# Altium footprint library jointbar.PCBLIB: 193 footprints (part 11 of 13)
Each footprint in its own frame and in the unit in brackets; x right, y up, seen from the top. Pads: shape width x height; smd on the part's side, far side on the other; paste and mask are expansions set on the pad; w line width, h text height; cw(c..) or ccw(c..) is an arc to the next point about the centre after c.
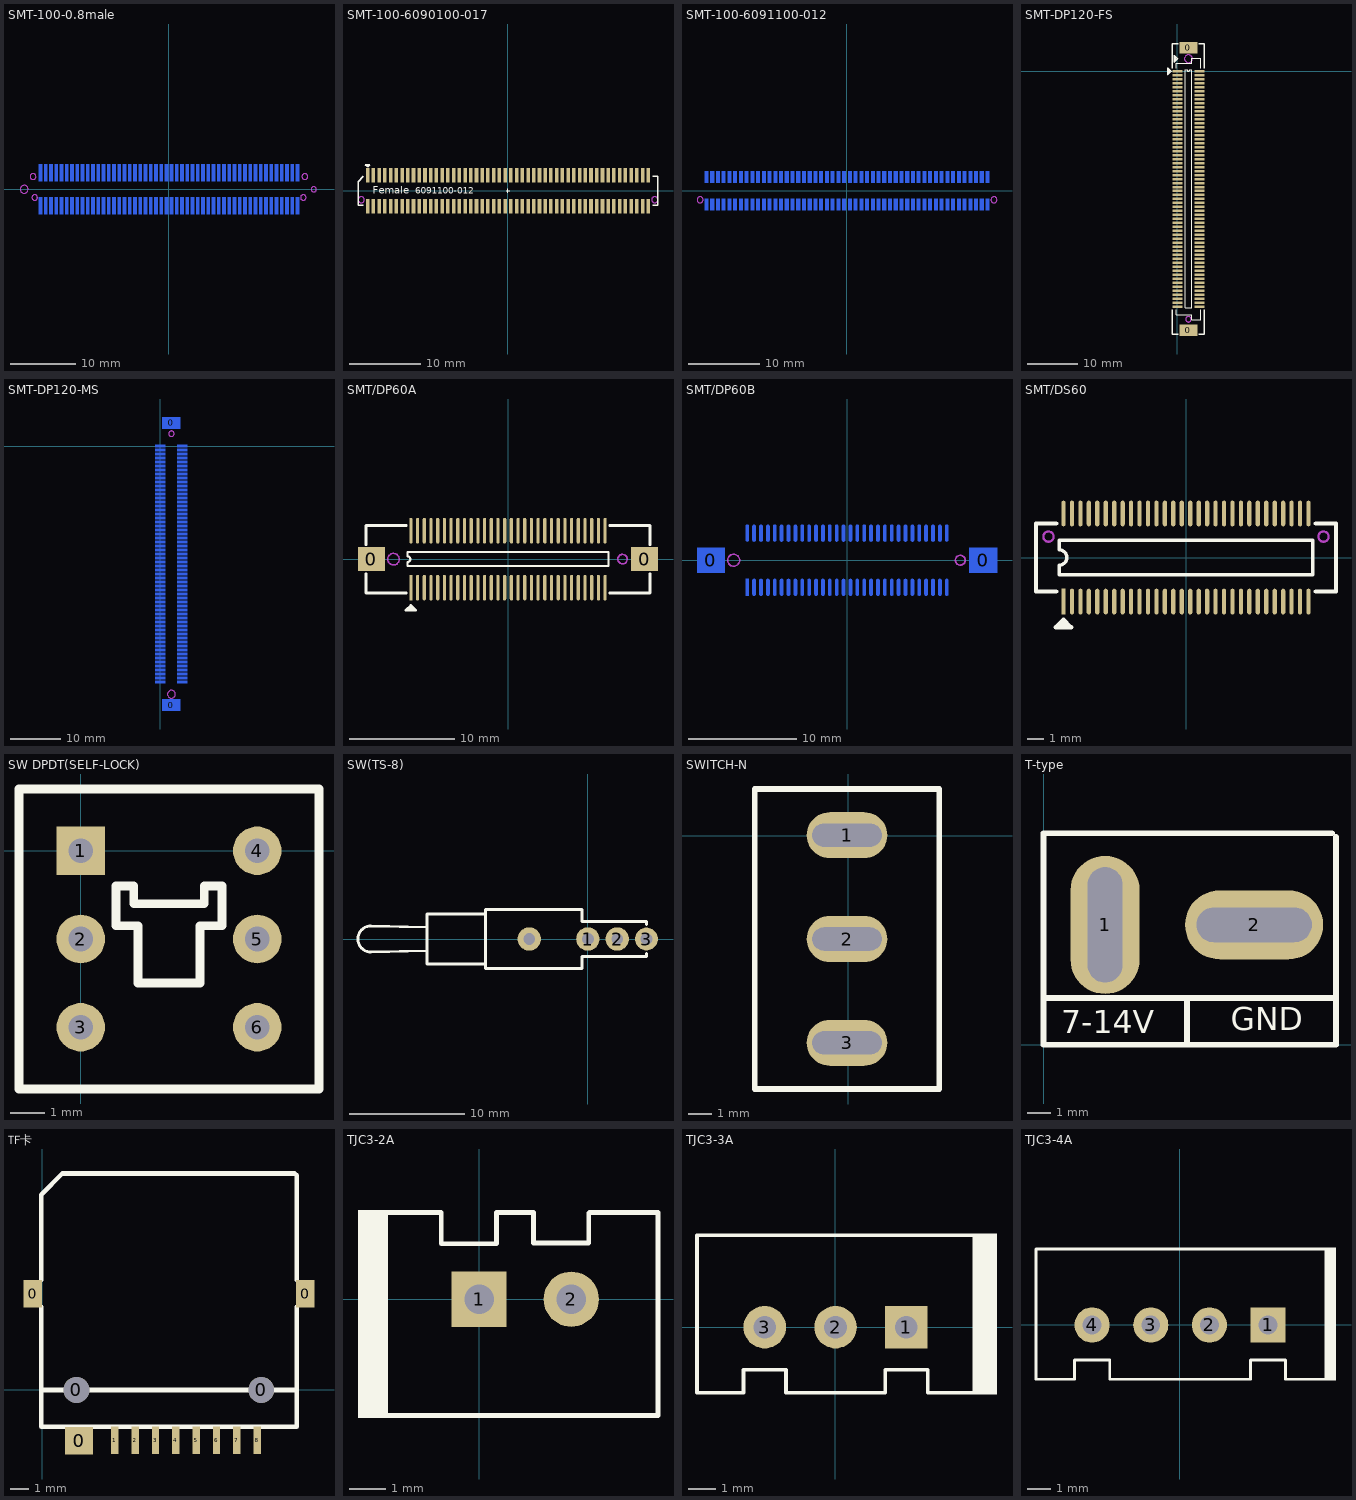
[diagram p10: the footprints below, top view; thin cyan lines are the x and y axes]

## SMT-100-0.8male [mm] "Male"
height 3.607
pads (100):
  rect 0.5x2.6 smd far side: 1(-19.6,2.505) 2(-19.6,-2.505) 3(-18.8,2.505) 4(-18.8,-2.505) 5(-18,2.505) 6(-18,-2.505) 7(-17.2,2.505) 8(-17.2,-2.505) 9(-16.4,2.505) 10(-16.4,-2.505) 11(-15.6,2.505) 12(-15.6,-2.505) 13(-14.8,2.505) 14(-14.8,-2.505) 15(-14,2.505) 16(-14,-2.505) 17(-13.2,2.505) 18(-13.2,-2.505) 19(-12.4,2.505) 20(-12.4,-2.505) 21(-11.6,2.505) 22(-11.6,-2.505) 23(-10.8,2.505) 24(-10.8,-2.505) 25(-10,2.505) 26(-10,-2.505) 27(-9.2,2.505) 28(-9.2,-2.505) 29(-8.4,2.505) 30(-8.4,-2.505) 31(-7.6,2.505) 32(-7.6,-2.505) 33(-6.8,2.505) 34(-6.8,-2.505) 35(-6,2.505) 36(-6,-2.505) 37(-5.2,2.505) 38(-5.2,-2.505) 39(-4.4,2.505) 40(-4.4,-2.505) 41(-3.6,2.505) 42(-3.6,-2.505) 43(-2.8,2.505) 44(-2.8,-2.505) 45(-2,2.505) 46(-2,-2.505) 47(-1.2,2.505) 48(-1.2,-2.505) 49(-0.4,2.505) 50(-0.4,-2.505) 51(0.4,2.505) 52(0.4,-2.505) 53(1.2,2.505) 54(1.2,-2.505) 55(2,2.505) 56(2,-2.505) 57(2.8,2.505) 58(2.8,-2.505) 59(3.6,2.505) 60(3.6,-2.505) 61(4.4,2.505) 62(4.4,-2.505) 63(5.2,2.505) 64(5.2,-2.505) 65(6,2.505) 66(6,-2.505) 67(6.8,2.505) 68(6.8,-2.505) 69(7.6,2.505) 70(7.6,-2.505) 71(8.4,2.505) 72(8.4,-2.505) 73(9.2,2.505) 74(9.2,-2.505) 75(10,2.505) 76(10,-2.505) 77(10.8,2.505) 78(10.8,-2.505) 79(11.6,2.505) 80(11.6,-2.505) 81(12.4,2.505) 82(12.4,-2.505) 83(13.2,2.505) 84(13.2,-2.505) 85(14,2.505) 86(14,-2.505) 87(14.8,2.505) 88(14.8,-2.505) 89(15.6,2.505) 90(15.6,-2.505) 91(16.4,2.505) 92(16.4,-2.505) 93(17.2,2.505) 94(17.2,-2.505) 95(18,2.505) 96(18,-2.505) 97(18.8,2.505) 98(18.8,-2.505) 99(19.6,2.505) 100(19.6,-2.505)
BottomOverlay:
  lines w0.127: -0.254,0 0.254,0 ; 0,-0.254 0,0.254
  lines w0.203: -20.066,-1.626 -20.828,-1.626 -20.828,0.864 -20.066,1.626 ; -20,-3 -22.9,-3 -22.9,3 -20,3 ; 20,-3 22.9,-3 22.9,3 20,3 ; 20.066,-1.626 20.828,-1.626 20.828,1.626 20.066,1.626 ; -20.402,3.298 -20.1,3.6 -20.402,3.902 -20.402,3.298
  text "Male" at -18.771,0.483 h1.02
KeepOutLayer:
  circle w0.1: c-20.5,-1.25 r0.425
  circle w0.1: c20.5,-1.25 r0.425
  circle w0.1: c-20.75,1.95 r0.45
  circle w0.1: c20.75,1.95 r0.45
  circle w0.1: c-22.1,0 r0.6
  circle w0.1: c22.1,0 r0.4
Mechanical1:
  circle w0.1: c-20.5,-1.25 r0.425
  circle w0.1: c20.5,-1.25 r0.425
  circle w0.1: c-20.75,1.95 r0.45
  circle w0.1: c20.75,1.95 r0.45
  circle w0.1: c-22.1,0 r0.6
  circle w0.1: c22.1,0 r0.4

## SMT-100-6090100-017 [mm] "Female"
height 5.182
pads (100):
  rect 0.5x2 smd: 1(-19.6,2.159) 2(-19.6,-2.159) 3(-18.8,2.159) 4(-18.8,-2.159) 5(-18,2.159) 6(-18,-2.159) 7(-17.2,2.159) 8(-17.2,-2.159) 9(-16.4,2.159) 10(-16.4,-2.159) 11(-15.6,2.159) 12(-15.6,-2.159) 13(-14.8,2.159) 14(-14.8,-2.159) 15(-14,2.159) 16(-14,-2.159) 17(-13.2,2.159) 18(-13.2,-2.159) 19(-12.4,2.159) 20(-12.4,-2.159) 21(-11.6,2.159) 22(-11.6,-2.159) 23(-10.8,2.159) 24(-10.8,-2.159) 25(-10,2.159) 26(-10,-2.159) 27(-9.2,2.159) 28(-9.2,-2.159) 29(-8.4,2.159) 30(-8.4,-2.159) 31(-7.6,2.159) 32(-7.6,-2.159) 33(-6.8,2.159) 34(-6.8,-2.159) 35(-6,2.159) 36(-6,-2.159) 37(-5.2,2.159) 38(-5.2,-2.159) 39(-4.4,2.159) 40(-4.4,-2.159) 41(-3.6,2.159) 42(-3.6,-2.159) 43(-2.8,2.159) 44(-2.8,-2.159) 45(-2,2.159) 46(-2,-2.159) 47(-1.2,2.159) 48(-1.2,-2.159) 49(-0.4,2.159) 50(-0.4,-2.159) 51(0.4,2.159) 52(0.4,-2.159) 53(1.2,2.159) 54(1.2,-2.159) 55(2,2.159) 56(2,-2.159) 57(2.8,2.159) 58(2.8,-2.159) 59(3.6,2.159) 60(3.6,-2.159) 61(4.4,2.159) 62(4.4,-2.159) 63(5.2,2.159) 64(5.2,-2.159) 65(6,2.159) 66(6,-2.159) 67(6.8,2.159) 68(6.8,-2.159) 69(7.6,2.159) 70(7.6,-2.159) 71(8.4,2.159) 72(8.4,-2.159) 73(9.2,2.159) 74(9.2,-2.159) 75(10,2.159) 76(10,-2.159) 77(10.8,2.159) 78(10.8,-2.159) 79(11.6,2.159) 80(11.6,-2.159) 81(12.4,2.159) 82(12.4,-2.159) 83(13.2,2.159) 84(13.2,-2.159) 85(14,2.159) 86(14,-2.159) 87(14.8,2.159) 88(14.8,-2.159) 89(15.6,2.159) 90(15.6,-2.159) 91(16.4,2.159) 92(16.4,-2.159) 93(17.2,2.159) 94(17.2,-2.159) 95(18,2.159) 96(18,-2.159) 97(18.8,2.159) 98(18.8,-2.159) 99(19.6,2.159) 100(19.6,-2.159)
TopOverlay:
  lines w0.127: -0.254,0 0.254,0 ; 0,-0.254 0,0.254
  lines w0.203: -20.193,-2.032 -20.955,-2.032 -20.955,1.27 -20.193,2.032 ; 20.193,-2.032 20.955,-2.032 20.955,2.032 20.193,2.032 ; -19.911,3.655 -19.609,3.353 -19.307,3.655 -19.911,3.655
  text "Female" at -18.923,-0.432 h1.02
  text "6091100-012" at -12.979,-0.432 h0.91
KeepOutLayer:
  circle w0.1: c-20.5,-1.25 r0.425
  circle w0.1: c20.5,-1.25 r0.425
Mechanical1:
  circle w0.1: c-20.5,-1.25 r0.425
  circle w0.1: c20.5,-1.25 r0.425

## SMT-100-6091100-012 [mm] "Male"
height 3.607
pads (100):
  rect 0.5x1.6 smd far side: 1(-19.6,1.905) 2(-19.6,-1.905) 3(-18.8,1.905) 4(-18.8,-1.905) 5(-18,1.905) 6(-18,-1.905) 7(-17.2,1.905) 8(-17.2,-1.905) 9(-16.4,1.905) 10(-16.4,-1.905) 11(-15.6,1.905) 12(-15.6,-1.905) 13(-14.8,1.905) 14(-14.8,-1.905) 15(-14,1.905) 16(-14,-1.905) 17(-13.2,1.905) 18(-13.2,-1.905) 19(-12.4,1.905) 20(-12.4,-1.905) 21(-11.6,1.905) 22(-11.6,-1.905) 23(-10.8,1.905) 24(-10.8,-1.905) 25(-10,1.905) 26(-10,-1.905) 27(-9.2,1.905) 28(-9.2,-1.905) 29(-8.4,1.905) 30(-8.4,-1.905) 31(-7.6,1.905) 32(-7.6,-1.905) 33(-6.8,1.905) 34(-6.8,-1.905) 35(-6,1.905) 36(-6,-1.905) 37(-5.2,1.905) 38(-5.2,-1.905) 39(-4.4,1.905) 40(-4.4,-1.905) 41(-3.6,1.905) 42(-3.6,-1.905) 43(-2.8,1.905) 44(-2.8,-1.905) 45(-2,1.905) 46(-2,-1.905) 47(-1.2,1.905) 48(-1.2,-1.905) 49(-0.4,1.905) 50(-0.4,-1.905) 51(0.4,1.905) 52(0.4,-1.905) 53(1.2,1.905) 54(1.2,-1.905) 55(2,1.905) 56(2,-1.905) 57(2.8,1.905) 58(2.8,-1.905) 59(3.6,1.905) 60(3.6,-1.905) 61(4.4,1.905) 62(4.4,-1.905) 63(5.2,1.905) 64(5.2,-1.905) 65(6,1.905) 66(6,-1.905) 67(6.8,1.905) 68(6.8,-1.905) 69(7.6,1.905) 70(7.6,-1.905) 71(8.4,1.905) 72(8.4,-1.905) 73(9.2,1.905) 74(9.2,-1.905) 75(10,1.905) 76(10,-1.905) 77(10.8,1.905) 78(10.8,-1.905) 79(11.6,1.905) 80(11.6,-1.905) 81(12.4,1.905) 82(12.4,-1.905) 83(13.2,1.905) 84(13.2,-1.905) 85(14,1.905) 86(14,-1.905) 87(14.8,1.905) 88(14.8,-1.905) 89(15.6,1.905) 90(15.6,-1.905) 91(16.4,1.905) 92(16.4,-1.905) 93(17.2,1.905) 94(17.2,-1.905) 95(18,1.905) 96(18,-1.905) 97(18.8,1.905) 98(18.8,-1.905) 99(19.6,1.905) 100(19.6,-1.905)
BottomOverlay:
  lines w0.127: -0.254,0 0.254,0 ; 0,-0.254 0,0.254
  lines w0.203: -20.066,-1.626 -20.828,-1.626 -20.828,0.864 -20.066,1.626 ; 20.066,-1.626 20.828,-1.626 20.828,1.626 20.066,1.626 ; -19.911,3.223 -19.307,3.223 -19.609,2.921 -19.911,3.223
  text "6091100-012" at -14.783,0.483 h0.91
  text "Male" at -18.771,0.483 h1.02
KeepOutLayer:
  circle w0.1: c20.5,-1.25 r0.425
  circle w0.1: c-20.5,-1.25 r0.425
Mechanical1:
  circle w0.1: c20.5,-1.25 r0.425
  circle w0.1: c-20.5,-1.25 r0.425

## SMT-DP120-FS [mm]
height 3.81
pads (122):
  rect 3.6x2.3 smd: 0(2.2,-51.85) 0(2.2,4.65)
  rect 2x0.5 smd: 1(0,0) 2(4.4,0) 3(0,-0.8) 4(4.4,-0.8) 5(0,-1.6) 6(4.4,-1.6) 7(0,-2.4) 8(4.4,-2.4) 9(0,-3.2) 10(4.4,-3.2) 11(0,-4) 12(4.4,-4) 13(0,-4.8) 14(4.4,-4.8) 15(0,-5.6) 16(4.4,-5.6) 17(0,-6.4) 18(4.4,-6.4) 19(0,-7.2) 20(4.4,-7.2) 21(0,-8) 22(4.4,-8) 23(0,-8.8) 24(4.4,-8.8) 25(0,-9.6) 26(4.4,-9.6) 27(0,-10.4) 28(4.4,-10.4) 29(0,-11.2) 30(4.4,-11.2) 31(0,-12) 32(4.4,-12) 33(0,-12.8) 34(4.4,-12.8) 35(0,-13.6) 36(4.4,-13.6) 37(0,-14.4) 38(4.4,-14.4) 39(0,-15.2) 40(4.4,-15.2) 41(0,-16) 42(4.4,-16) 43(0,-16.8) 44(4.4,-16.8) 45(0,-17.6) 46(4.4,-17.6) 47(0,-18.4) 48(4.4,-18.4) 49(0,-19.2) 50(4.4,-19.2) 51(0,-20) 52(4.4,-20) 53(0,-20.8) 54(4.4,-20.8) 55(0,-21.6) 56(4.4,-21.6) 57(0,-22.4) 58(4.4,-22.4) 59(0,-23.2) 60(4.4,-23.2) 61(0,-24) 62(4.4,-24) 63(0,-24.8) 64(4.4,-24.8) 65(0,-25.6) 66(4.4,-25.6) 67(0,-26.4) 68(4.4,-26.4) 69(0,-27.2) 70(4.4,-27.2) 71(0,-28) 72(4.4,-28) 73(0,-28.8) 74(4.4,-28.8) 75(0,-29.6) 76(4.4,-29.6) 77(0,-30.4) 78(4.4,-30.4) 79(0,-31.2) 80(4.4,-31.2) 81(0,-32) 82(4.4,-32) 83(0,-32.8) 84(4.4,-32.8) 85(0,-33.6) 86(4.4,-33.6) 87(0,-34.4) 88(4.4,-34.4) 89(0,-35.2) 90(4.4,-35.2) 91(0,-36) 92(4.4,-36) 93(0,-36.8) 94(4.4,-36.8) 95(0,-37.6) 96(4.4,-37.6) 97(0,-38.4) 98(4.4,-38.4) 99(0,-39.2) 100(4.4,-39.2) 101(0,-40) 102(4.4,-40) 103(0,-40.8) 104(4.4,-40.8) 105(0,-41.6) 106(4.4,-41.6) 107(0,-42.4) 108(4.4,-42.4) 109(0,-43.2) 110(4.4,-43.2) 111(0,-44) 112(4.4,-44) 113(0,-44.8) 114(4.4,-44.8) 115(0,-45.6) 116(4.4,-45.6) 117(0,-46.4) 118(4.4,-46.4) 119(0,-47.2) 120(4.4,-47.2)
TopOverlay:
  lines w0.2: 1.535,-47.411 2.865,-47.411 2.865,0.265 2.469,0.265 cw(c2.2,0.265) 1.931,0.265 1.535,0.265 1.535,-47.411
  lines w0.229: -1.739,-0.469 -1.739,0.469 ; -1.525,-0.255 -1.525,0.255 ; -0.417,2.021 -0.417,2.958 ; -0.203,-47.81 -0.203,-48.826 2.845,-48.826 2.845,-49.842 4.648,-49.842 4.648,-47.759 ; -0.203,0.61 -0.203,1.626 2.845,1.626 2.845,2.642 4.648,2.642 4.648,0.559 ; -0.203,2.235 -0.203,2.744 ; -1.956,-0.686 -1.27,0 -1.956,0.686 -1.956,-0.686 ; -0.634,1.803 -0.634,3.175 0.051,2.489 -0.634,1.803
  lines w0.254: -1,-47.77 -1,-52.681 0.121,-52.681 ; -1,0.57 -1,5.481 0.121,5.481 ; 4.279,-52.7 5.4,-52.7 5.4,-47.795 ; 4.279,5.5 5.4,5.5 5.4,0.595
KeepOutLayer:
  circle w0.152: c2.2,2.5 r0.8
  circle w0.152: c2.2,-49.7 r0.55
Mechanical1:
  circle w0.152: c2.2,2.5 r0.8
  circle w0.152: c2.2,-49.7 r0.55

## SMT-DP120-MS [mm]
height 7.62
pads (122):
  rect 3.6x2.3 smd far side: 0(2.2,-51.85) 0(2.2,4.65)
  rect 2x0.5 smd far side: 1(0,0) 2(4.4,0) 3(0,-0.8) 4(4.4,-0.8) 5(0,-1.6) 6(4.4,-1.6) 7(0,-2.4) 8(4.4,-2.4) 9(0,-3.2) 10(4.4,-3.2) 11(0,-4) 12(4.4,-4) 13(0,-4.8) 14(4.4,-4.8) 15(0,-5.6) 16(4.4,-5.6) 17(0,-6.4) 18(4.4,-6.4) 19(0,-7.2) 20(4.4,-7.2) 21(0,-8) 22(4.4,-8) 23(0,-8.8) 24(4.4,-8.8) 25(0,-9.6) 26(4.4,-9.6) 27(0,-10.4) 28(4.4,-10.4) 29(0,-11.2) 30(4.4,-11.2) 31(0,-12) 32(4.4,-12) 33(0,-12.8) 34(4.4,-12.8) 35(0,-13.6) 36(4.4,-13.6) 37(0,-14.4) 38(4.4,-14.4) 39(0,-15.2) 40(4.4,-15.2) 41(0,-16) 42(4.4,-16) 43(0,-16.8) 44(4.4,-16.8) 45(0,-17.6) 46(4.4,-17.6) 47(0,-18.4) 48(4.4,-18.4) 49(0,-19.2) 50(4.4,-19.2) 51(0,-20) 52(4.4,-20) 53(0,-20.8) 54(4.4,-20.8) 55(0,-21.6) 56(4.4,-21.6) 57(0,-22.4) 58(4.4,-22.4) 59(0,-23.2) 60(4.4,-23.2) 61(0,-24) 62(4.4,-24) 63(0,-24.8) 64(4.4,-24.8) 65(0,-25.6) 66(4.4,-25.6) 67(0,-26.4) 68(4.4,-26.4) 69(0,-27.2) 70(4.4,-27.2) 71(0,-28) 72(4.4,-28) 73(0,-28.8) 74(4.4,-28.8) 75(0,-29.6) 76(4.4,-29.6) 77(0,-30.4) 78(4.4,-30.4) 79(0,-31.2) 80(4.4,-31.2) 81(0,-32) 82(4.4,-32) 83(0,-32.8) 84(4.4,-32.8) 85(0,-33.6) 86(4.4,-33.6) 87(0,-34.4) 88(4.4,-34.4) 89(0,-35.2) 90(4.4,-35.2) 91(0,-36) 92(4.4,-36) 93(0,-36.8) 94(4.4,-36.8) 95(0,-37.6) 96(4.4,-37.6) 97(0,-38.4) 98(4.4,-38.4) 99(0,-39.2) 100(4.4,-39.2) 101(0,-40) 102(4.4,-40) 103(0,-40.8) 104(4.4,-40.8) 105(0,-41.6) 106(4.4,-41.6) 107(0,-42.4) 108(4.4,-42.4) 109(0,-43.2) 110(4.4,-43.2) 111(0,-44) 112(4.4,-44) 113(0,-44.8) 114(4.4,-44.8) 115(0,-45.6) 116(4.4,-45.6) 117(0,-46.4) 118(4.4,-46.4) 119(0,-47.2) 120(4.4,-47.2)
BottomOverlay:
  lines w0.2: 1.535,-47.411 2.865,-47.411 2.865,0.265 2.469,0.265 cw(c2.2,0.265) 1.931,0.265 1.535,0.265 1.535,-47.411
  lines w0.229: -1.739,-0.469 -1.739,0.469 ; -1.525,-0.255 -1.525,0.255 ; -0.203,-47.81 -0.203,-48.826 2.845,-48.826 2.845,-49.842 4.648,-49.842 4.648,-47.759 ; -0.203,0.61 -0.203,1.626 2.845,1.626 2.845,2.642 4.648,2.642 4.648,0.559 ; 0.302,0.759 0.302,1.12 ; -1.956,-0.686 -1.27,0 -1.956,0.686 -1.956,-0.686 ; 0.127,0.584 0.483,0.94 0.127,1.295 0.127,0.584
  lines w0.254: -1,-47.77 -1,-52.681 0.121,-52.681 ; -1,0.57 -1,5.481 0.121,5.481 ; 4.279,-52.7 5.4,-52.7 5.4,-47.795 ; 4.279,5.5 5.4,5.5 5.4,0.595
KeepOutLayer:
  circle w0.152: c2.2,2.5 r0.55
  circle w0.152: c2.2,-49.7 r0.8
Mechanical1:
  circle w0.152: c2.2,2.5 r0.55
  circle w0.152: c2.2,-49.7 r0.8

## SMT/DP60A [mil]
pads (62):
  rect 100x90 smd: 0(-510,0) 0(510,0)
  rect 12x96 smd: 1(-362.5,-106.3)
  oval 12x96 smd: 2(-362.5,106.3) 3(-337.5,-106.3) 4(-337.5,106.3) 5(-312.5,-106.3) 6(-312.5,106.3) 7(-287.5,-106.3) 8(-287.5,106.3) 9(-262.5,-106.3) 10(-262.5,106.3) 11(-237.5,-106.3) 12(-237.5,106.3) 13(-212.5,-106.3) 14(-212.5,106.3) 15(-187.5,-106.3) 16(-187.5,106.3) 17(-162.5,-106.3) 18(-162.5,106.3) 19(-137.5,-106.3) 20(-137.5,106.3) 21(-112.5,-106.3) 22(-112.5,106.3) 23(-87.5,-106.3) 24(-87.5,106.3) 25(-62.5,-106.3) 26(-62.5,106.3) 27(-37.5,-106.3) 28(-37.5,106.3) 29(-12.5,-106.3) 30(-12.5,106.3) 31(12.5,-106.3) 32(12.5,106.3) 33(37.5,-106.3) 34(37.5,106.3) 35(62.5,-106.3) 36(62.5,106.3) 37(87.5,-106.3) 38(87.5,106.3) 39(112.5,-106.3) 40(112.5,106.3) 41(137.5,-106.3) 42(137.5,106.3) 43(162.5,-106.3) 44(162.5,106.3) 45(187.5,-106.3) 46(187.5,106.3) 47(212.5,-106.3) 48(212.5,106.3) 49(237.5,-106.3) 50(237.5,106.3) 51(262.5,-106.3) 52(262.5,106.3) 53(287.5,-106.3) 54(287.5,106.3) 55(312.5,-106.3) 56(312.5,106.3) 57(337.5,-106.3) 58(337.5,106.3) 59(362.5,-106.3) 60(362.5,106.3)
TopOverlay:
  rectangle: -370.5,-190.3 -354.5,-178.3
  lines w7.87: -375,-26.18 -375,-10.58 ccw(c-375,0) -375,10.58 -375,26.18 375,26.18 375,-26.18 -375,-26.18
  lines w10: -529.92,-54.08 -529.92,-125.98 -380.02,-125.98 ; -529.92,54.08 -529.92,125.98 -380.02,125.98 ; 380.02,-125.98 529.92,-125.98 529.92,-54.08 ; 380.02,125.98 529.92,125.98 529.92,54.08 ; -380.5,-190.3 -362.5,-172.3 -344.5,-190.3 -380.5,-190.3
KeepOutLayer:
  circle w5: c427.56,0 r17.72
  circle w5: c-427.56,0 r21.65
Mechanical1:
  circle w5: c-427.56,0 r21.65
  circle w5: c427.56,0 r17.72

## SMT/DP60B [mil]
pads (62):
  rect 100x90 smd far side: 0(-495,0) 0(495,0)
  rect 12x61 smd far side: 1(-362.5,-98.43)
  oval 12x61 smd far side: 2(-362.5,98.42) 3(-337.5,-98.42) 4(-337.5,98.42) 5(-312.5,-98.42) 6(-312.5,98.42) 7(-287.5,-98.42) 8(-287.5,98.42) 9(-262.5,-98.42) 10(-262.5,98.42) 11(-237.5,-98.42) 12(-237.5,98.42) 13(-212.5,-98.42) 14(-212.5,98.42) 15(-187.5,-98.42) 16(-187.5,98.42) 17(-162.5,-98.42) 18(-162.5,98.42) 19(-137.5,-98.42) 20(-137.5,98.42) 21(-112.5,-98.42) 22(-112.5,98.42) 23(-87.5,-98.42) 24(-87.5,98.42) 25(-62.5,-98.42) 26(-62.5,98.42) 27(-37.5,-98.42) 28(-37.5,98.42) 29(-12.5,-98.42) 30(-12.5,98.42) 31(12.5,-98.42) 32(12.5,98.42) 33(37.5,-98.42) 34(37.5,98.42) 35(62.5,-98.42) 36(62.5,98.42) 37(87.5,-98.43) 38(87.5,98.43) 39(112.5,-98.43) 40(112.5,98.43) 41(137.5,-98.43) 42(137.5,98.43) 43(162.5,-98.43) 44(162.5,98.43) 45(187.5,-98.43) 46(187.5,98.43) 47(212.5,-98.43) 48(212.5,98.43) 49(237.5,-98.43) 50(237.5,98.43) 51(262.5,-98.43) 52(262.5,98.43) 53(287.5,-98.43) 54(287.5,98.43) 55(312.5,-98.43) 56(312.5,98.43) 57(337.5,-98.43) 58(337.5,98.43) 59(362.5,-98.43) 60(362.5,98.43)
BottomOverlay:
  rectangle: -370.5,-156.43 -354.5,-144.43
  lines w7.87: -375,-36.02 375,-36.02 375,36.02 -375,36.02 -375,10.51 cw(c-375,0) -375,-10.51 -375,-36.02
  lines w10: -510.24,-55.24 -510.24,-98.43 -380.43,-98.43 ; -510.24,55.24 -510.24,98.43 -380.43,98.43 ; 380.43,-98.43 510.24,-98.43 510.24,-55.24 ; 380.43,98.43 510.24,98.43 510.24,55.24 ; -380.5,-156.43 -344.5,-156.43 -362.5,-138.43 -380.5,-156.43
KeepOutLayer:
  circle w5: c-411.81,0 r21.65
  circle w5: c411.81,0 r17.72
Mechanical1:
  circle w5: c-411.81,0 r21.65
  circle w5: c411.81,0 r17.72

## SMT/DS60 [mil]
pads (60):
  rect 10x60 smd: 1(-285.83,-102.76)
  oval 10x60 smd: 2(-285.83,102.76) 3(-266.12,-102.76) 4(-266.12,102.76) 5(-246.4,-102.76) 6(-246.4,102.76) 7(-226.69,-102.76) 8(-226.69,102.76) 9(-206.98,-102.76) 10(-206.98,102.76) 11(-187.27,-102.76) 12(-187.27,102.76) 13(-167.55,-102.76) 14(-167.55,102.76) 15(-147.84,-102.76) 16(-147.84,102.76) 17(-128.13,-102.76) 18(-128.13,102.76) 19(-108.42,-102.76) 20(-108.42,102.76) 21(-88.7,-102.76) 22(-88.7,102.76) 23(-68.99,-102.76) 24(-68.99,102.76) 25(-49.28,-102.76) 26(-49.28,102.76) 27(-29.57,-102.76) 28(-29.57,102.76) 29(-9.86,-102.76) 30(-9.86,102.76) 31(9.86,-102.76) 32(9.86,102.76) 33(29.57,-102.76) 34(29.57,102.76) 35(49.28,-102.76) 36(49.28,102.76) 37(68.99,-102.76) 38(68.99,102.76) 39(88.7,-102.76) 40(88.7,102.76) 41(108.42,-102.76) 42(108.42,102.76) 43(128.13,-102.76) 44(128.13,102.76) 45(147.84,-102.76) 46(147.84,102.76) 47(167.55,-102.76) 48(167.55,102.76) 49(187.27,-102.76) 50(187.27,102.76) 51(206.98,-102.76) 52(206.98,102.76) 53(226.69,-102.76) 54(226.69,102.76) 55(246.4,-102.76) 56(246.4,102.76) 57(266.12,-102.76) 58(266.12,102.76) 59(285.83,-102.76) 60(285.83,102.76)
TopOverlay:
  rectangle: -294,-163 -278,-151
  lines w7.87: -295.68,-40.35 295.68,-40.35 295.68,40.35 -295.68,40.35 -295.68,17.68 cw(c-295.68,0) -295.68,-17.68 -295.68,-40.35
  lines w10: -302.53,-79.53 -350,-79.53 -350,79.53 -302.53,79.53 ; 302.53,-79.53 350,-79.53 350,79.53 302.53,79.53 ; -304,-163 -286,-145 -268,-163 -304,-163
KeepOutLayer:
  circle w5: c-320.87,48.82 r12
  circle w5: c320.87,48.82 r12
Mechanical1:
  circle w5: c-320.87,48.82 r12
  circle w5: c320.87,48.82 r12

## SW DPDT(SELF-LOCK) [mil]
pads (6):
  rect 55x55 hole 28: 1(0,0)
  round 55 hole 28: 2(0,-100) 3(0,-200) 4(200,0) 5(200,-100) 6(200,-200)
TopOverlay:
  lines w10: -70,-270 -70,70 270,70 270,-270 -70,-270 ; 40,-85 40,-40 60,-40 60,-60 140,-60 140,-40 160,-40 160,-85 135,-85 135,-150 65,-150 65,-85 40,-85

## SW(TS-8) [mil]
pads (4):
  round 80 hole 40: 1(0,0) 2(100,0) ""(-200,0)
  round 78.74 hole 40: 3(200,0)
TopOverlay:
  lines w10: -550,-40 -740,-45 cw(c-740,0) -740,45 -550,40 ; -350,-85 -550,-85 -550,85 -350,85 ; 200,-50 200,-60 -20,-60 -20,-100 -350,-100 -350,100 -20,100 -20,60 200,60 200,50

## SWITCH-N [mm]
pads (3):
  oval 3.5x2 hole 1 slot 3 at 0 deg: 1(-0.064,0.032) 2(-0.064,-4.468) 3(-0.064,-8.968)
TopOverlay:
  lines w0.254: -4.064,-10.968 -4.064,2.032 3.936,2.032 3.936,-10.968 -4.064,-10.968

## T-type [mm]
pads (2):
  oval 3x6 hole 1.5 slot 5 at 90 deg: 1(2.667,5.207)
  oval 6x3 hole 1.5 slot 5 at 0 deg: 2(9.144,5.207)
TopOverlay:
  lines w0.254: 0.127,2.032 12.573,2.032 ; 6.223,0 6.223,2.032 ; 12.531,9.186 0,9.186 0,0 12.7,0 12.7,2.159 12.7,9.017
  text "7-14V" at 0.762,0.508 h1
  text "GND" at 8.128,0.635 h1

## TF卡 [mm]
pads (13):
  rect 1x1.5 smd: 0(-0.508,5.207) 0(14.224,5.207)
  round 1.4 hole 1.4: 0(1.85,0) 0(11.85,0)
  rect 1.5x1.5 smd: 0(1.991,-2.745)
  rect 0.4x1.5 smd: 1(3.929,-2.718) 2(5.029,-2.718) 3(6.129,-2.718) 4(7.229,-2.718) 5(8.329,-2.718) 6(9.429,-2.718) 7(10.529,-2.718) 8(11.629,-2.718)
TopOverlay:
  lines w0.254: -0.051,4.5 -0.051,-2 13.767,-2 13.767,4.5 ; -0.051,5.944 -0.051,9.444 -0.051,10.566 1.092,11.709 13.665,11.709 13.767,11.608 13.767,8.814 ; 0,0 13.7,0 ; 13.767,5.944 13.767,9.444

## TJC3-2A [mil]
pads (2):
  rect 60x60 hole 32: 1(0,0)
  round 60 hole 32: 2(100,0)
TopOverlay:
  region: -98.84,96.5 -131.17,96.5 -131.17,-128.5 -98.84,-128.5
  lines w5: -105,-126 194,-126 194,94 119.48,94 ; -104,94 -87,94 -41,94 -41,60 19,60 19,94 59,94 59,61 119,61 119,93.52

## TJC3-3A [mil]
pads (3):
  rect 60x60 hole 32: 1(100.17,0)
  round 60 hole 32: 2(0.17,0) 3(-99.83,0)
TopOverlay:
  rectangle: 195.84,-95.1 228.17,132.4
  lines w5: -195.5,-92.52 -195.5,129.92 195.84,129.92 195.84,-92.52 130.17,-92.52 130.17,-60 70.17,-60 70.17,-92.52 -69.83,-92.52 -69.83,-60 -129.83,-60 -129.83,-92.52 -195.5,-92.52

## TJC3-4A [mil]
pads (4):
  rect 60x60 hole 32: 1(150.28,0)
  round 60 hole 32: 2(50.27,0) 3(-49.73,0) 4(-149.72,0)
TopOverlay:
  rectangle: 246,-95 266,132.5
  lines w5: 245.94,-92.52 180.28,-92.52 180.28,-60 120.28,-60 120.28,-92.52 -119.72,-92.52 -119.72,-60 -179.72,-60 -179.72,-92.52 -245.4,-92.52 -245.4,129.92 245.94,129.92